# EAGLE library part TSL250RD (library vttay03_custom)
IC LIGHT TO VOLTAGE CONV
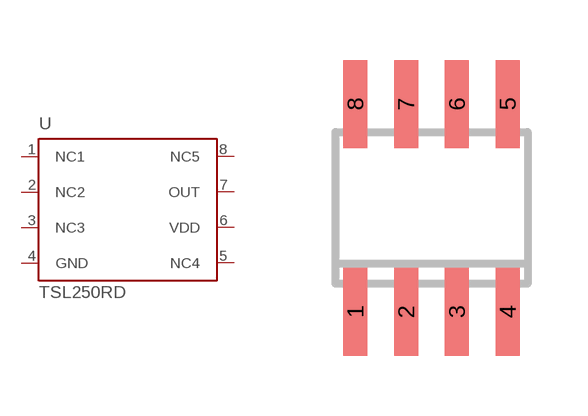
[diagram p2: symbol with the pads of SO08; footprint SO08]

Designator prefix -

## TSL250RD  [SO08]
1  NC1  nc
2  NC2  nc
3  NC3  nc
4  GND  pwr
5  NC4  nc
6  VDD  pwr
7  OUT  out
8  NC5  nc

## Footprint SO08 (pad centres in mm)
Small Outline Package 8 NS Package M08A
smd 0.6 x 2.2: 1 -1.905,-2.6; 2 -0.635,-2.6; 3 0.635,-2.6; 4 1.905,-2.6; 5 1.905,2.6; 6 0.635,2.6; 7 -0.635,2.6; 8 -1.905,2.6